# Altium footprint library DYS080_V5.PcbLib: 35 footprints (part 1 of 3)
Each footprint in its own frame and in the unit in brackets; x right, y up, seen from the top. Pads: shape width x height; smd on the part's side, far side on the other; paste and mask are expansions set on the pad; w line width, h text height; cw(c..) or ccw(c..) is an arc to the next point about the centre after c.
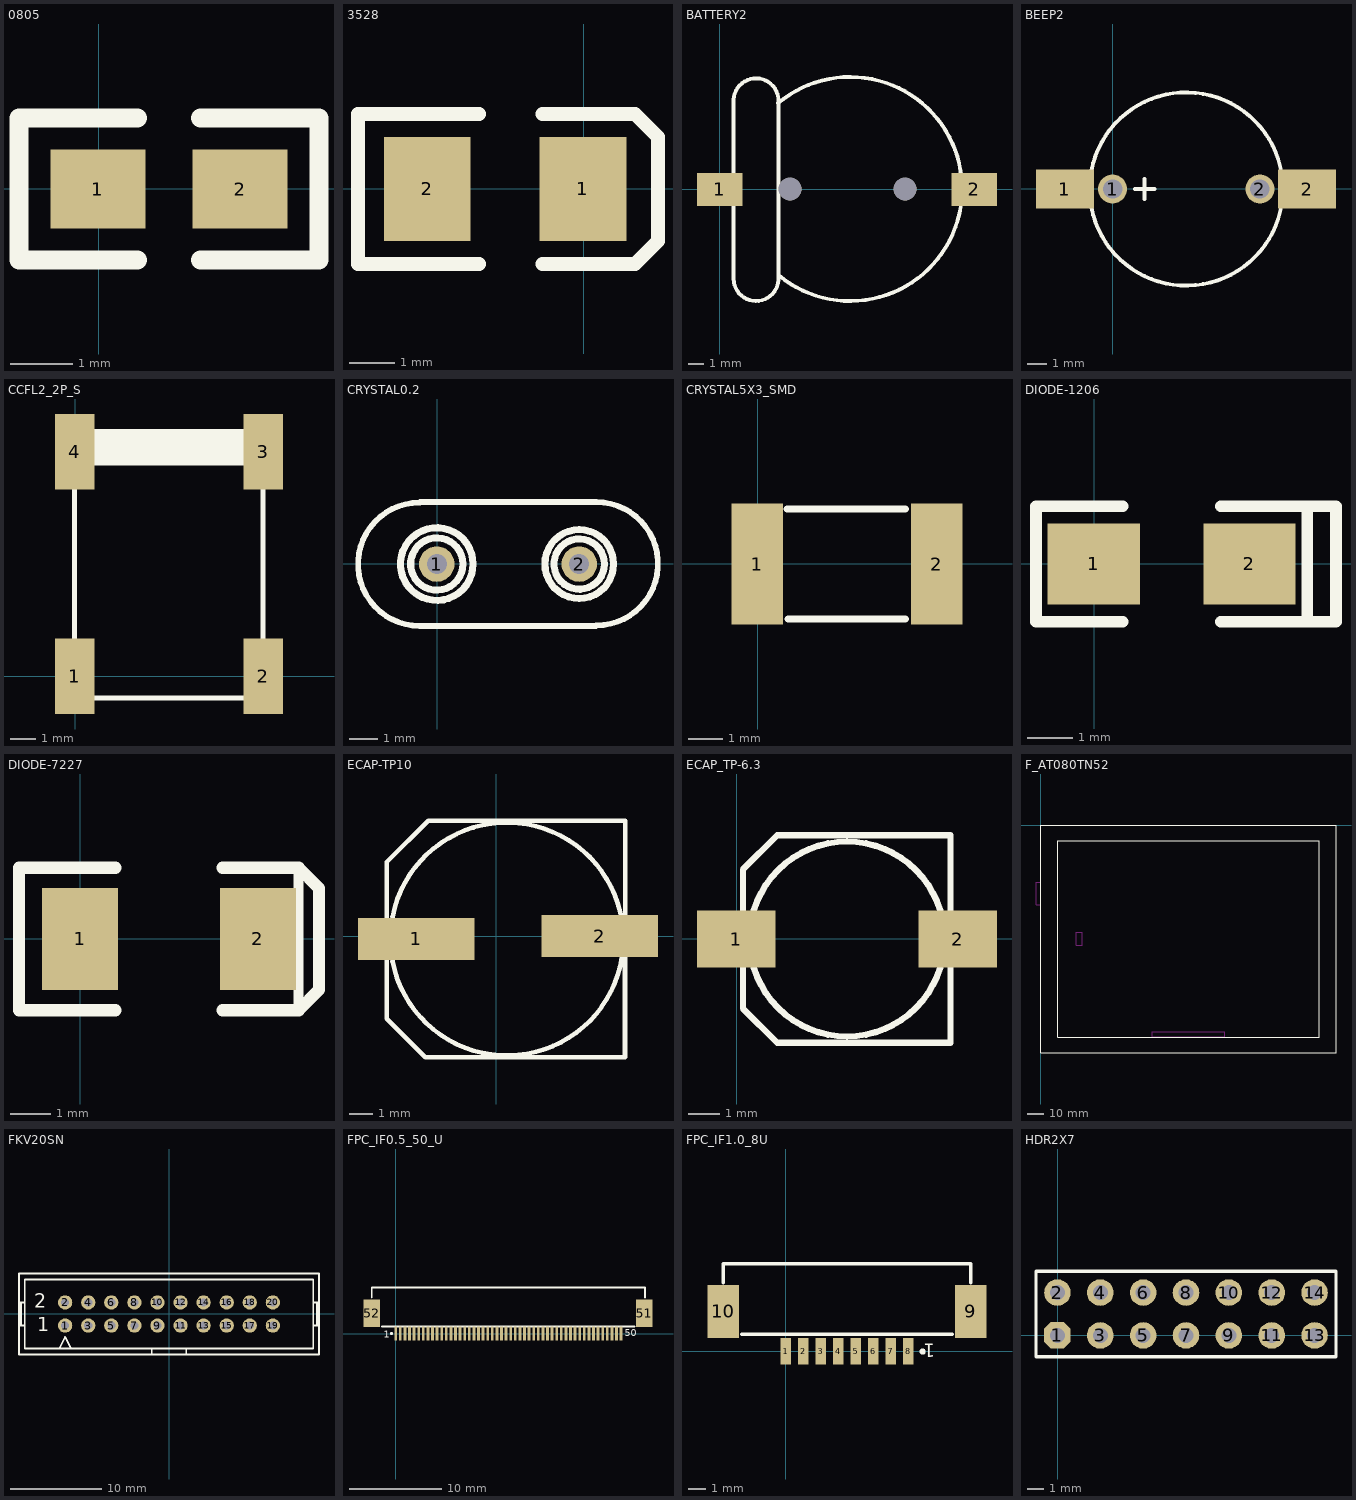
[diagram p0: the footprints below, top view; thin cyan lines are the x and y axes]

## 0805 [mil]
pads (2):
  rect 60x50 smd: 1(-0.45,-0.18) 2(89.55,-0.18)
Top Overlay:
  lines w12: 24.55,-45.18 -50.45,-45.18 -50.45,44.82 24.55,44.82 ; 64.55,-45.18 139.55,-45.18 139.55,44.82 64.55,44.82

## 3528 [mil]
pads (2):
  rect 75x90 smd: 1(-0.45,-0.18) 2(-135.45,-0.18)
Top Overlay:
  lines w12: -90.45,-65.18 -195.45,-65.18 -195.45,64.82 -90.45,64.82 ; -35.45,-65.18 44.55,-65.18 64.55,-45.18 64.55,44.82 44.55,64.82 -35.45,64.82

## BATTERY2 [mm]
pads (4):
  rect 3x2.2 smd: 1(-0.011,-0.03) 2(16.803,-0.03)
  round 1.5 hole 1.5: ""(4.631,-0.005) ""(12.231,-0.005)
Top Overlay:
  lines w0.254: 3.843,5.671 cw(c8.599,0.002) 3.875,-5.694 ; 0.903,-5.948 ccw(c2.388,-5.91) 3.871,-5.995 3.875,5.863 ccw(c2.39,5.825) 0.906,5.91 0.903,-5.948

## BEEP2 [mm]
pads (4):
  rect 3x2 smd: 1(-2.475,-0.005) 2(10.047,-0.005)
  round 1.5 hole 1: 1(-0.011,-0.005) 2(7.609,-0.005)
Top Overlay:
  circle w0.2: c3.799,-0.005 r5
  lines w0.2: 1.132,-0.005 2.148,-0.005 ; 1.64,-0.513 1.64,0.503

## CCFL2_2P_S [mm]
pads (4):
  rect 1.575x3 smd: 1(-0.011,-0.005) 2(7.489,-0.005) 3(7.482,8.932) 4(-0.018,8.932)
Top Overlay:
  rectangle: 0.54,8.377 6.967,9.732
  lines w0.203: -0.018,-0.868 -0.018,9.732 7.482,9.732 7.482,-0.868 -0.018,-0.868

## CRYSTAL0.2 [mil]
pads (2):
  round 50 hole 28: 1(-0.45,-0.18) 2(199.55,-0.18)
Top Overlay:
  circle w10: c199.55,-0.18 r48.27
  circle w10: c-0.45,-0.18 r51
  circle w10: c-0.45,-0.18 r36.72
  circle w10: c199.55,-0.18 r35.36
  lines w8: -24.45,86.2 ccw(c-24.45,-0.41) -24.45,-87.02 222.94,-87.02 ; -23.83,86.82 223.55,86.82 cw(c223.55,0.2) 223.55,-86.41

## CRYSTAL5X3_SMD [mm]
pads (2):
  rect 1.5x3.5 smd: 1(-0.011,-0.005) 2(5.189,-0.005)
Top Overlay:
  lines w0.203: 0.852,1.596 4.281,1.596 ; 0.878,-1.605 4.281,-1.605

## DIODE-1206 [mil]
pads (2):
  rect 80x70 smd: 1(-0.45,-0.43) 2(134.55,-0.43)
Top Overlay:
  lines w10: 24.55,-50.43 -50.45,-50.43 -50.45,49.57 24.55,49.57 ; 109.55,-50.43 184.55,-50.43 ; 109.55,49.57 184.55,49.57 ; 184.55,-50.43 184.55,49.57 ; 184.55,-50.43 209.55,-50.43 209.55,49.57 184.55,49.57

## DIODE-7227 [mm]
pads (2):
  rect 1.905x2.54 smd: 1(-0.011,-0.005) 2(4.434,-0.005)
Top Overlay:
  lines w0.254: 5.45,-1.783 5.45,1.773
  lines w0.305: 0.878,-1.783 -1.535,-1.783 -1.535,1.773 0.878,1.773 ; 3.545,-1.783 5.45,-1.783 5.958,-1.275 5.958,1.265 5.45,1.773 3.545,1.773

## ECAP-TP10 [mm]
pads (2):
  rect 5x1.8 smd: 1(-3.429,-0.127) 2(4.445,0)
Top Overlay:
  circle w0.2: c0.461,-0.132 r5
  lines w0.2: -4.699,-3.556 -4.699,3.175 -2.921,4.953 5.533,4.948 5.529,-5.21 -3.048,-5.207 -4.699,-3.556

## ECAP_TP-6.3 [mm]
pads (2):
  rect 2.5x1.8 smd: 1(-0.011,-0.005) 2(7.029,-0.005)
Top Overlay:
  circle w0.2: c3.509,-0.005 r3.1
  lines w0.2: 0.199,-2.214 1.291,-3.307 6.799,-3.305 6.803,3.297 1.291,3.297 0.199,2.205 0.199,-2.214

## F_AT080TN52 [mm]
Top Overlay:
  lines w0.203: 0.001,-141 0.001,0 183.001,0 183.001,-141 0.001,-141 ; 10.501,-131.25 10.501,-9.75 172.501,-9.75 172.501,-131.25 10.501,-131.25
Keep-Out Layer:
  lines w0.203: -2.882,-49.392 -2.882,-35.385 -0.05,-35.385 -0.05,-49.392 -2.882,-49.392 ; 22.2,-74.353 22.218,-74.371 25.87,-74.371 25.87,-66.37 22.2,-66.37 22.2,-74.353 ; 69.021,-131.013 69.021,-128.013 114.021,-128.013 114.021,-131.013 69.021,-131.013

## FKV20SN [mil]
pads (20):
  round 62 hole 35: 1(-450.45,-50.18) 2(-450.45,49.82) 3(-350.45,-50.18) 4(-350.45,49.82) 5(-250.45,-50.18) 6(-250.45,49.82) 7(-150.45,-50.18) 8(-150.45,49.82) 9(-50.45,-50.18) 10(-50.45,49.82) 11(49.55,-50.18) 12(49.55,49.82) 13(149.55,-50.18) 14(149.55,49.82) 15(249.55,-50.18) 16(249.55,49.82) 17(349.55,-50.18) 18(349.55,49.82) 19(449.55,-50.18) 20(449.55,49.82)
Top Overlay:
  lines w8: -650.45,-50.18 -625.45,-50.18 ; -650.45,49.82 -625.45,49.82 ; -642.11,-50.18 -642.11,49.82 ; -475.45,-150.18 -450.45,-100.18 -425.45,-150.18 ; -75.45,-175.18 -75.45,-150.18 ; 74.55,-175.18 74.55,-150.18 ; 624.55,-50.18 649.55,-50.18 ; 624.55,49.82 649.55,49.82 ; 641.22,-50.18 641.22,49.82 ; -75.45,-150.18 -625.45,-150.18 -625.45,149.82 624.55,149.82 624.55,-150.18 74.55,-150.18 ; -75.45,-150.18 74.55,-150.18 ; -650.45,-175.18 -650.45,174.82 649.55,174.82 649.55,-175.18 -650.45,-175.18
  text "2" at -585.45,26.82 h60
  text "1" at -572.45,-75.18 h60

## FPC_IF0.5_50_U [mm]
pads (52):
  rect 0.305x1.5 smd: 1(-0.001,-0.005) 2(0.499,-0.005) 3(0.999,-0.005) 4(1.499,-0.005) 5(1.999,-0.005) 6(2.499,-0.005) 7(2.999,-0.005) 8(3.499,-0.005) 9(3.999,-0.005) 10(4.499,-0.005) 11(4.999,-0.005) 12(5.499,-0.005) 13(5.999,-0.005) 14(6.499,-0.005) 15(6.999,-0.005) 16(7.499,-0.005) 17(7.999,-0.005) 18(8.499,-0.005) 19(8.999,-0.005) 20(9.499,-0.005) 21(9.999,-0.005) 22(10.499,-0.005) 23(10.999,-0.005) 24(11.499,-0.005) 25(11.999,-0.005) 26(12.499,-0.005) 27(12.999,-0.005) 28(13.499,-0.005) 29(13.999,-0.005) 30(14.499,-0.005) 31(14.999,-0.005) 32(15.499,-0.005) 33(15.999,-0.005) 34(16.499,-0.005) 35(16.999,-0.005) 36(17.499,-0.005) 37(17.999,-0.005) 38(18.499,-0.005) 39(18.999,-0.005) 40(19.499,-0.005) 41(19.999,-0.005) 42(20.499,-0.005) 43(20.999,-0.005) 44(21.499,-0.005) 45(21.999,-0.005) 46(22.499,-0.005) 47(22.999,-0.005) 48(23.499,-0.005) 49(23.999,-0.005) 50(24.499,-0.005)
  rect 1.778x3 smd: 51(27.014,2.205) 52(-2.599,2.205)
Top Overlay:
  circle w0.203: c-0.458,-0.005 r0.076
  lines w0.203: -2.601,3.909 -2.601,4.995 27.09,4.995 27.09,3.907 ; -1.501,0.757 25.973,0.757
  text "1" at -1.321,-0.436 h0.76
  text "50" at 24.899,-0.305 h0.76

## FPC_IF1.0_8U [mm]
pads (10):
  rect 0.6x1.5 smd: 1(-0.011,-0.005) 2(0.989,-0.005) 3(1.989,-0.005) 4(2.989,-0.005) 5(3.989,-0.005) 6(4.989,-0.005) 7(5.989,-0.005) 8(6.989,-0.005)
  rect 1.778x3 smd: 9(10.538,2.266) 10(-3.562,2.266)
Top Overlay:
  circle w0.203: c7.798,-0.02 r0.076
  lines w0.203: -3.569,3.909 -3.569,4.995 10.545,4.995 10.545,3.907 ; -2.511,0.961 9.478,0.961
  text "1" at 8.509,0.411 h0.76

## HDR2X7 [mil]
pads (14):
  oct 62x62 hole 35: 1(-0.45,-0.18)
  round 62 hole 35: 2(-0.45,99.82) 3(99.55,-0.18) 4(99.55,99.82) 5(199.55,-0.18) 6(199.55,99.82) 7(299.55,-0.18) 8(299.55,99.82) 9(399.55,-0.18) 10(399.55,99.82) 11(499.55,-0.18) 12(499.55,99.82) 13(599.55,-0.18) 14(599.55,99.82)
Top Overlay:
  lines w8: -50.45,-50.18 649.55,-50.18 649.55,149.82 -50.45,149.82 -50.45,-50.18